# Altium integrated library WE-SHC (rev24a).IntLib: 139 symbols (part 2 of 3)
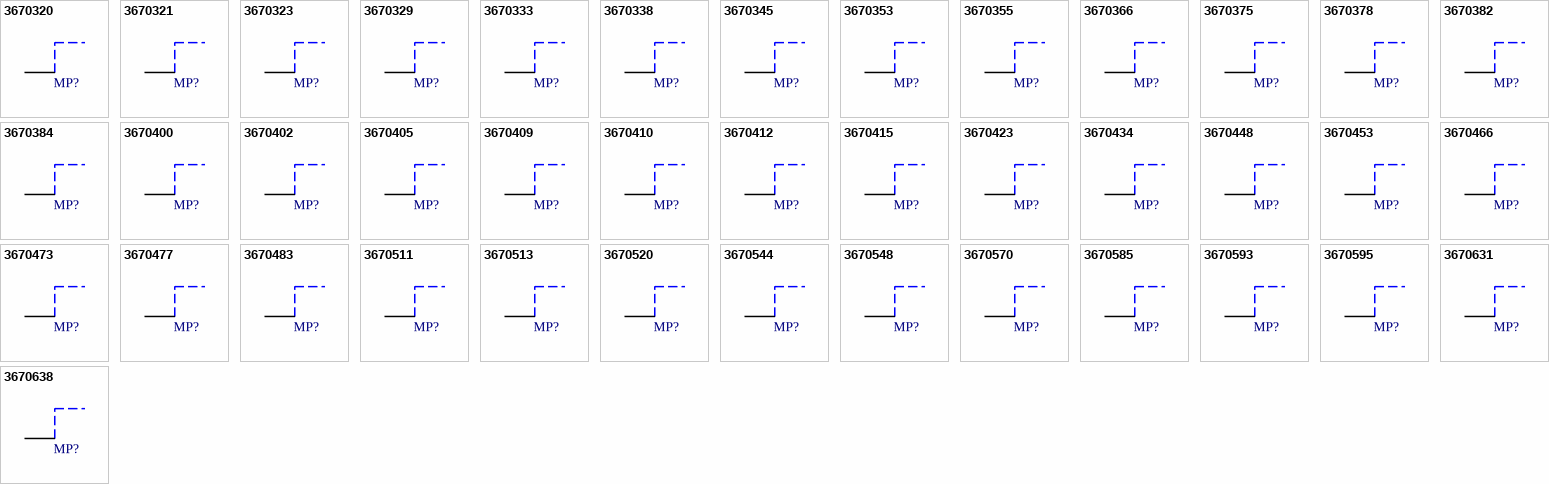
[diagram p4: symbols 3670320 to 3670638]

## 3670511
designator MP?  (value not drawn)
WE-SHC Shielding Cabinet, SMT Frame Seamless, Tin Plated, Tray, 51.1x25.7x6.5mm; Manufacturer: Wurth Elektronik; Base Material: Steel; ComponentLink1Description: Website Link; ComponentLink1URL: https://www.we-online.com/redexpert/article/3670511?ad; ComponentLink2Description: Datasheet Link; ComponentLink2URL: https://www.we-online.com/redexpert/spec/3670511?ad; Manufacturer Part Number: 3670511; Category: EMC Shielding; Match Code: WE-SHC; Mount: Surface Mount; Operating Temperature Max: 125°C; Operating Temperature Min: -40°C; Packaging: Tray; Length: 51.1mm; Width: 25.7mm; Height: 6.5mm; Plating: Tin Plated; Type: SMT Frame Seamless
footprint 3670511
pins: 1

## 3670513
designator MP?  (value not drawn)
WE-SHC Shielding Cabinet, SMT Frame Seamless, Tin Plated, Tray, 51.3x26.5x9.5mm; Manufacturer: Wurth Elektronik; Base Material: Steel; ComponentLink1Description: Website Link; ComponentLink1URL: https://www.we-online.com/redexpert/article/3670513?ad; ComponentLink2Description: Datasheet Link; ComponentLink2URL: https://www.we-online.com/redexpert/spec/3670513?ad; Manufacturer Part Number: 3670513; Category: EMC Shielding; Match Code: WE-SHC; Mount: Surface Mount; Operating Temperature Max: 125°C; Operating Temperature Min: -40°C; Packaging: Tray; Length: 51.3mm; Width: 26.5mm; Height: 9.5mm; Plating: Tin Plated; Type: SMT Frame Seamless
footprint 3670513
pins: 1

## 3670520
designator MP?  (value not drawn)
WE-SHC Shielding Cabinet, SMT Frame Seamless, Tin Plated, Tray, 52x26.7x6mm; Manufacturer: Wurth Elektronik; Base Material: Steel; ComponentLink1Description: Website Link; ComponentLink1URL: https://www.we-online.com/redexpert/article/3670520?ad; ComponentLink2Description: Datasheet Link; ComponentLink2URL: https://www.we-online.com/redexpert/spec/3670520?ad; Manufacturer Part Number: 3670520; Category: EMC Shielding; Match Code: WE-SHC; Mount: Surface Mount; Operating Temperature Max: 125°C; Operating Temperature Min: -40°C; Packaging: Tray; Length: 52mm; Width: 26.7mm; Height: 6mm; Plating: Tin Plated; Type: SMT Frame Seamless
footprint 3670520
pins: 1

## 3670544
designator MP?  (value not drawn)
WE-SHC Shielding Cabinet, SMT Frame Seamless, Tin Plated, Tray, 54.4x23.9x7.5mm; Manufacturer: Wurth Elektronik; Base Material: Steel; ComponentLink1Description: Website Link; ComponentLink1URL: https://www.we-online.com/redexpert/article/3670544?ad; ComponentLink2Description: Datasheet Link; ComponentLink2URL: https://www.we-online.com/redexpert/spec/3670544?ad; Manufacturer Part Number: 3670544; Category: EMC Shielding; Match Code: WE-SHC; Mount: Surface Mount; Operating Temperature Max: 125°C; Operating Temperature Min: -40°C; Packaging: Tray; Length: 54.4mm; Width: 23.9mm; Height: 7.5mm; Plating: Tin Plated; Type: SMT Frame Seamless
footprint 3670544
pins: 1

## 3670548
designator MP?  (value not drawn)
WE-SHC Shielding Cabinet, SMT Frame Seamless, Tin Plated, Tray, 54.8x40.8x11mm; Manufacturer: Wurth Elektronik; Base Material: Steel; ComponentLink1Description: Website Link; ComponentLink1URL: https://www.we-online.com/redexpert/article/3670548?ad; ComponentLink2Description: Datasheet Link; ComponentLink2URL: https://www.we-online.com/redexpert/spec/3670548?ad; Manufacturer Part Number: 3670548; Category: EMC Shielding; Match Code: WE-SHC; Mount: Surface Mount; Operating Temperature Max: 125°C; Operating Temperature Min: -40°C; Packaging: Tray; Length: 54.8mm; Width: 40.8mm; Height: 11mm; Plating: Tin Plated; Type: SMT Frame Seamless
footprint 3670548
pins: 1

## 3670570
designator MP?  (value not drawn)
WE-SHC Shielding Cabinet, SMT Frame Seamless, Tin Plated, Tray, 57x31x6mm; Manufacturer: Wurth Elektronik; Base Material: Steel; ComponentLink1Description: Website Link; ComponentLink1URL: https://www.we-online.com/redexpert/article/3670570?ad; ComponentLink2Description: Datasheet Link; ComponentLink2URL: https://www.we-online.com/redexpert/spec/3670570?ad; Manufacturer Part Number: 3670570; Category: EMC Shielding; Match Code: WE-SHC; Mount: Surface Mount; Operating Temperature Max: 125°C; Operating Temperature Min: -40°C; Packaging: Tray; Length: 57mm; Width: 31mm; Height: 6mm; Plating: Tin Plated; Type: SMT Frame Seamless
footprint 3670570
pins: 1

## 3670585
designator MP?  (value not drawn)
WE-SHC Shielding Cabinet, SMT Frame Seamless, Tin Plated, Tray, 58.5x49.7x4.7mm; Manufacturer: Wurth Elektronik; Base Material: Steel; ComponentLink1Description: Website Link; ComponentLink1URL: https://www.we-online.com/redexpert/article/3670585?ad; ComponentLink2Description: Datasheet Link; ComponentLink2URL: https://www.we-online.com/redexpert/spec/3670585?ad; Manufacturer Part Number: 3670585; Category: EMC Shielding; Match Code: WE-SHC; Mount: Surface Mount; Operating Temperature Max: 125°C; Operating Temperature Min: -40°C; Packaging: Tray; Length: 58.5mm; Width: 49.7mm; Height: 4.7mm; Plating: Tin Plated; Type: SMT Frame Seamless
footprint 3670585
pins: 1

## 3670593
designator MP?  (value not drawn)
WE-SHC Shielding Cabinet, SMT Frame Seamless, Tin Plated, Tray, 59.3x20.6x2.8mm; Manufacturer: Wurth Elektronik; Base Material: Steel; ComponentLink1Description: Website Link; ComponentLink1URL: https://www.we-online.com/redexpert/article/3670593?ad; ComponentLink2Description: Datasheet Link; ComponentLink2URL: https://www.we-online.com/redexpert/spec/3670593?ad; Manufacturer Part Number: 3670593; Category: EMC Shielding; Match Code: WE-SHC; Mount: Surface Mount; Operating Temperature Max: 125°C; Operating Temperature Min: -40°C; Packaging: Tray; Length: 59.3mm; Width: 20.6mm; Height: 2.8mm; Plating: Tin Plated; Type: SMT Frame Seamless
footprint 3670593
pins: 1

## 3670595
designator MP?  (value not drawn)
WE-SHC Shielding Cabinet, SMT Frame Seamless, Tin Plated, Tray, 59.5x50.4x3.2mm; Manufacturer: Wurth Elektronik; Base Material: Steel; ComponentLink1Description: Website Link; ComponentLink1URL: https://www.we-online.com/redexpert/article/3670595?ad; ComponentLink2Description: Datasheet Link; ComponentLink2URL: https://www.we-online.com/redexpert/spec/3670595?ad; Manufacturer Part Number: 3670595; Category: EMC Shielding; Match Code: WE-SHC; Mount: Surface Mount; Operating Temperature Max: 125°C; Operating Temperature Min: -40°C; Packaging: Tray; Length: 59.5mm; Width: 50.4mm; Height: 3.2mm; Plating: Tin Plated; Type: SMT Frame Seamless
footprint 3670595
pins: 1

## 3670631
designator MP?  (value not drawn)
WE-SHC Shielding Cabinet, SMT Frame Seamless, Tin Plated, Tray, 63.1x35.5x2.8mm; Manufacturer: Wurth Elektronik; Base Material: Steel; ComponentLink1Description: Website Link; ComponentLink1URL: https://www.we-online.com/redexpert/article/3670631?ad; ComponentLink2Description: Datasheet Link; ComponentLink2URL: https://www.we-online.com/redexpert/spec/3670631?ad; Manufacturer Part Number: 3670631; Category: EMC Shielding; Match Code: WE-SHC; Mount: Surface Mount; Operating Temperature Max: 125°C; Operating Temperature Min: -40°C; Packaging: Tray; Length: 63.1mm; Width: 35.5mm; Height: 2.8mm; Plating: Tin Plated; Type: SMT Frame Seamless
footprint 3670631
pins: 1

## 3670638
designator MP?  (value not drawn)
WE-SHC Shielding Cabinet, SMT Frame Seamless, Tin Plated, Tray, 63.8x36.3x11mm; Manufacturer: Wurth Elektronik; Base Material: Steel; ComponentLink1Description: Website Link; ComponentLink1URL: https://www.we-online.com/redexpert/article/3670638?ad; ComponentLink2Description: Datasheet Link; ComponentLink2URL: https://www.we-online.com/redexpert/spec/3670638?ad; Manufacturer Part Number: 3670638; Category: EMC Shielding; Match Code: WE-SHC; Mount: Surface Mount; Operating Temperature Max: 125°C; Operating Temperature Min: -40°C; Packaging: Tray; Length: 63.8mm; Width: 36.3mm; Height: 11mm; Plating: Tin Plated; Type: SMT Frame Seamless
footprint 3670638
pins: 1

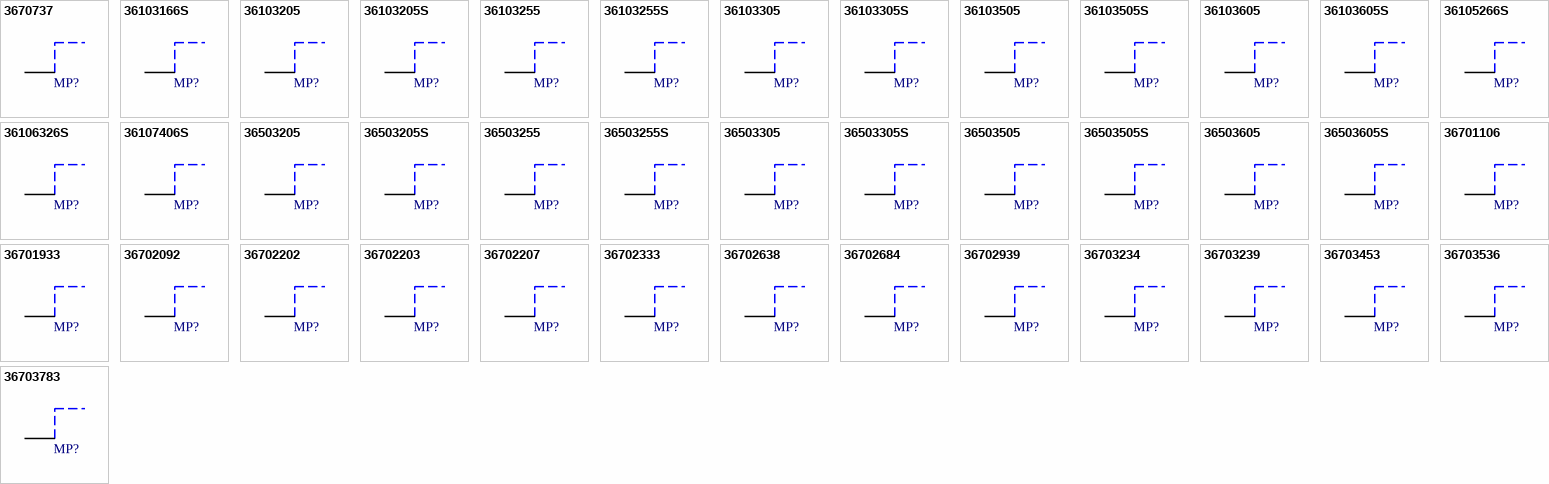
[diagram p2: symbols 3670737 to 36703783]

## 3670737
designator MP?  (value not drawn)
WE-SHC Shielding Cabinet, SMT Frame Seamless, Tin Plated, Tray, 73.7x28.1x2.9mm; Manufacturer: Wurth Elektronik; Base Material: Steel; ComponentLink1Description: Website Link; ComponentLink1URL: https://www.we-online.com/redexpert/article/3670737?ad; ComponentLink2Description: Datasheet Link; ComponentLink2URL: https://www.we-online.com/redexpert/spec/3670737?ad; Manufacturer Part Number: 3670737; Category: EMC Shielding; Match Code: WE-SHC; Mount: Surface Mount; Operating Temperature Max: 125°C; Operating Temperature Min: -40°C; Packaging: Tray; Length: 73.7mm; Width: 28.1mm; Height: 2.9mm; Plating: Tin Plated; Type: SMT Frame Seamless
footprint 3670737
pins: 1

## 36103166S
designator MP?  (value not drawn)
WE-SHC Shielding Cabinet, SMT Frame, Tin Plated, Tape and Reel, 16.1x16.1x3.6mm; Manufacturer: Wurth Elektronik; Base Material: Steel; ComponentLink1Description: Website Link; ComponentLink1URL: https://www.we-online.com/redexpert/article/36103166S?ad; ComponentLink2Description: Datasheet Link; ComponentLink2URL: https://www.we-online.com/redexpert/spec/36103166S?ad; Manufacturer Part Number: 36103166S; Category: EMC Shielding; Match Code: WE-SHC; Mount: Surface Mount; Operating Temperature Max: 125°C; Operating Temperature Min: -40°C; Packaging: Tape and Reel; Length: 16.1mm; Width: 16.1mm; Height: 3.6mm; Plating: Tin Plated; Type: SMT Frame
footprint 36103166S
pins: 1

## 36103205
designator MP?  (value not drawn)
WE-SHC Shielding Cabinet, SMT Frame, Tin Plated, Tape and Reel, 20x20x3mm; Manufacturer: Wurth Elektronik; Base Material: Steel; ComponentLink1Description: Website Link; ComponentLink1URL: https://www.we-online.com/redexpert/article/36103205?ad; ComponentLink2Description: Datasheet Link; ComponentLink2URL: https://www.we-online.com/redexpert/spec/36103205?ad; Manufacturer Part Number: 36103205; Category: EMC Shielding; Match Code: WE-SHC; Mount: Surface Mount; Operating Temperature Max: 125°C; Operating Temperature Min: -40°C; Packaging: Tape and Reel; Length: 20mm; Width: 20mm; Height: 3mm; Plating: Tin Plated; Type: SMT Frame
footprint 36103205
pins: 1

## 36103205S
designator MP?  (value not drawn)
WE-SHC Shielding Cabinet, SMT Frame, Tin Plated, Tray, 20x20x3mm; Manufacturer: Wurth Elektronik; Base Material: Steel; ComponentLink1Description: Website Link; ComponentLink1URL: https://www.we-online.com/redexpert/article/36103205S?ad; ComponentLink2Description: Datasheet Link; ComponentLink2URL: https://www.we-online.com/redexpert/spec/36103205S?ad; Manufacturer Part Number: 36103205S; Category: EMC Shielding; Match Code: WE-SHC; Mount: Surface Mount; Operating Temperature Max: 125°C; Operating Temperature Min: -40°C; Packaging: Tray; Length: 20mm; Width: 20mm; Height: 3mm; Plating: Tin Plated; Type: SMT Frame
footprint 36103205S
pins: 1

## 36103255
designator MP?  (value not drawn)
WE-SHC Shielding Cabinet, SMT Frame, Tin Plated, Tray, 25x25x3mm; Manufacturer: Wurth Elektronik; Base Material: Steel; ComponentLink1Description: Website Link; ComponentLink1URL: https://www.we-online.com/redexpert/article/36103255?ad; ComponentLink2Description: Datasheet Link; ComponentLink2URL: https://www.we-online.com/redexpert/spec/36103255?ad; Manufacturer Part Number: 36103255; Category: EMC Shielding; Match Code: WE-SHC; Mount: Surface Mount; Operating Temperature Max: 125°C; Operating Temperature Min: -40°C; Packaging: Tray; Length: 25mm; Width: 25mm; Height: 3mm; Plating: Tin Plated; Type: SMT Frame
footprint 36103255
pins: 1

## 36103255S
designator MP?  (value not drawn)
WE-SHC Shielding Cabinet, SMT Frame, Tin Plated, Tray, 25x25x3mm; Manufacturer: Wurth Elektronik; Base Material: Steel; ComponentLink1Description: Website Link; ComponentLink1URL: https://www.we-online.com/redexpert/article/36103255S?ad; ComponentLink2Description: Datasheet Link; ComponentLink2URL: https://www.we-online.com/redexpert/spec/36103255S?ad; Manufacturer Part Number: 36103255S; Category: EMC Shielding; Match Code: WE-SHC; Mount: Surface Mount; Operating Temperature Max: 125°C; Operating Temperature Min: -40°C; Packaging: Tray; Length: 25mm; Width: 25mm; Height: 3mm; Plating: Tin Plated; Type: SMT Frame
footprint 36103255S
pins: 1

## 36103305
designator MP?  (value not drawn)
WE-SHC Shielding Cabinet, SMT Frame, Tin Plated, Tape and Reel, 30x30x3mm; Manufacturer: Wurth Elektronik; Base Material: Steel; ComponentLink1Description: Website Link; ComponentLink1URL: https://www.we-online.com/redexpert/article/36103305?ad; ComponentLink2Description: Datasheet Link; ComponentLink2URL: https://www.we-online.com/redexpert/spec/36103305?ad; Manufacturer Part Number: 36103305; Category: EMC Shielding; Match Code: WE-SHC; Mount: Surface Mount; Operating Temperature Max: 125°C; Operating Temperature Min: -40°C; Packaging: Tape and Reel; Length: 30mm; Width: 30mm; Height: 3mm; Plating: Tin Plated; Type: SMT Frame
footprint 36103305
pins: 1

## 36103305S
designator MP?  (value not drawn)
WE-SHC Shielding Cabinet, SMT Frame, Tin Plated, Tray, 30x30x3mm; Manufacturer: Wurth Elektronik; Base Material: Steel; ComponentLink1Description: Website Link; ComponentLink1URL: https://www.we-online.com/redexpert/article/36103305S?ad; ComponentLink2Description: Datasheet Link; ComponentLink2URL: https://www.we-online.com/redexpert/spec/36103305S?ad; Manufacturer Part Number: 36103305S; Category: EMC Shielding; Match Code: WE-SHC; Mount: Surface Mount; Operating Temperature Max: 125°C; Operating Temperature Min: -40°C; Packaging: Tray; Length: 30mm; Width: 30mm; Height: 3mm; Plating: Tin Plated; Type: SMT Frame
footprint 36103305S
pins: 1

## 36103505
designator MP?  (value not drawn)
WE-SHC Shielding Cabinet, SMT Frame, Tin Plated, Tape and Reel, 50x50x3mm; Manufacturer: Wurth Elektronik; Base Material: Steel; ComponentLink1Description: Website Link; ComponentLink1URL: https://www.we-online.com/redexpert/article/36103505?ad; ComponentLink2Description: Datasheet Link; ComponentLink2URL: https://www.we-online.com/redexpert/spec/36103505?ad; Manufacturer Part Number: 36103505; Category: EMC Shielding; Match Code: WE-SHC; Mount: Surface Mount; Operating Temperature Max: 125°C; Operating Temperature Min: -40°C; Packaging: Tape and Reel; Length: 50mm; Width: 50mm; Height: 3mm; Plating: Tin Plated; Type: SMT Frame
footprint 36103505
pins: 1

## 36103505S
designator MP?  (value not drawn)
WE-SHC Shielding Cabinet, SMT Frame, Tin Plated, Tray, 50x50x3mm; Manufacturer: Wurth Elektronik; Base Material: Steel; ComponentLink1Description: Website Link; ComponentLink1URL: https://www.we-online.com/redexpert/article/36103505S?ad; ComponentLink2Description: Datasheet Link; ComponentLink2URL: https://www.we-online.com/redexpert/spec/36103505S?ad; Manufacturer Part Number: 36103505S; Category: EMC Shielding; Match Code: WE-SHC; Mount: Surface Mount; Operating Temperature Max: 125°C; Operating Temperature Min: -40°C; Packaging: Tray; Length: 50mm; Width: 50mm; Height: 3mm; Plating: Tin Plated; Type: SMT Frame
footprint 36103505S
pins: 1

## 36103605
designator MP?  (value not drawn)
WE-SHC Shielding Cabinet, SMT Frame, Tin Plated, Tray, 60x60x3mm; Manufacturer: Wurth Elektronik; Base Material: Steel; ComponentLink1Description: Website Link; ComponentLink1URL: https://www.we-online.com/redexpert/article/36103605?ad; ComponentLink2Description: Datasheet Link; ComponentLink2URL: https://www.we-online.com/redexpert/spec/36103605?ad; Manufacturer Part Number: 36103605; Category: EMC Shielding; Match Code: WE-SHC; Mount: Surface Mount; Operating Temperature Max: 125°C; Operating Temperature Min: -40°C; Packaging: Tray; Length: 60mm; Width: 60mm; Height: 3mm; Plating: Tin Plated; Type: SMT Frame
footprint 36103605
pins: 1

## 36103605S
designator MP?  (value not drawn)
WE-SHC Shielding Cabinet, SMT Frame, Tin Plated, Tray, 60x60x3mm; Manufacturer: Wurth Elektronik; Base Material: Steel; ComponentLink1Description: Website Link; ComponentLink1URL: https://www.we-online.com/redexpert/article/36103605S?ad; ComponentLink2Description: Datasheet Link; ComponentLink2URL: https://www.we-online.com/redexpert/spec/36103605S?ad; Manufacturer Part Number: 36103605S; Category: EMC Shielding; Match Code: WE-SHC; Mount: Surface Mount; Operating Temperature Max: 125°C; Operating Temperature Min: -40°C; Packaging: Tray; Length: 60mm; Width: 60mm; Height: 3mm; Plating: Tin Plated; Type: SMT Frame
footprint 36103605S
pins: 1

## 36105266S
designator MP?  (value not drawn)
WE-SHC Shielding Cabinet, SMT Frame, Tin Plated, Tape and Reel, 25.81x25.81x4.88mm; Manufacturer: Wurth Elektronik; Base Material: Steel; ComponentLink1Description: Website Link; ComponentLink1URL: https://www.we-online.com/redexpert/article/36105266S?ad; ComponentLink2Description: Datasheet Link; ComponentLink2URL: https://www.we-online.com/redexpert/spec/36105266S?ad; Manufacturer Part Number: 36105266S; Category: EMC Shielding; Match Code: WE-SHC; Mount: Surface Mount; Operating Temperature Max: 125°C; Operating Temperature Min: -40°C; Packaging: Tape and Reel; Length: 25.81mm; Width: 25.81mm; Height: 4.88mm; Plating: Tin Plated; Type: SMT Frame
footprint 36105266S
pins: 1

## 36106326S
designator MP?  (value not drawn)
WE-SHC Shielding Cabinet, SMT Frame, Tin Plated, Tape and Reel, 31.6x31.6x5.8mm; Manufacturer: Wurth Elektronik; Base Material: Steel; ComponentLink1Description: Website Link; ComponentLink1URL: https://www.we-online.com/redexpert/article/36106326S?ad; ComponentLink2Description: Datasheet Link; ComponentLink2URL: https://www.we-online.com/redexpert/spec/36106326S?ad; Manufacturer Part Number: 36106326S; Category: EMC Shielding; Match Code: WE-SHC; Mount: Surface Mount; Operating Temperature Max: 125°C; Operating Temperature Min: -40°C; Packaging: Tape and Reel; Length: 31.6mm; Width: 31.6mm; Height: 5.8mm; Plating: Tin Plated; Type: SMT Frame
footprint 36106326S
pins: 1

## 36107406S
designator MP?  (value not drawn)
WE-SHC Shielding Cabinet, SMT Frame, Tin Plated, Tray, 43.97x43.97x9.55mm; Manufacturer: Wurth Elektronik; Base Material: Steel; ComponentLink1Description: Website Link; ComponentLink1URL: https://www.we-online.com/redexpert/article/36107406S?ad; ComponentLink2Description: Datasheet Link; ComponentLink2URL: https://www.we-online.com/redexpert/spec/36107406S?ad; Manufacturer Part Number: 36107406S; Category: EMC Shielding; Match Code: WE-SHC; Mount: Surface Mount; Operating Temperature Max: 125°C; Operating Temperature Min: -40°C; Packaging: Tray; Length: 43.97mm; Width: 43.97mm; Height: 9.55mm; Plating: Tin Plated; Type: SMT Frame
footprint 36107406S
pins: 1

## 36503205
designator MP?  (value not drawn)
WE-SHC Shielding Cabinet, THT Frame, Tin Plated, Tray, 20x20x3mm; Manufacturer: Wurth Elektronik; Base Material: Steel; ComponentLink1Description: Website Link; ComponentLink1URL: https://www.we-online.com/redexpert/article/36503205?ad; ComponentLink2Description: Datasheet Link; ComponentLink2URL: https://www.we-online.com/redexpert/spec/36503205?ad; Manufacturer Part Number: 36503205; Category: EMC Shielding; Match Code: WE-SHC; Mount: Through Hole; Operating Temperature Max: 125°C; Operating Temperature Min: -40°C; Packaging: Tray; Length: 20mm; Width: 20mm; Height: 3mm; Plating: Tin Plated; Type: THT Frame
footprint 36503205
pins: 1

## 36503205S
designator MP?  (value not drawn)
WE-SHC Shielding Cabinet, THT Frame, Tin Plated, Tray, 20x20x3mm; Manufacturer: Wurth Elektronik; Base Material: Steel; ComponentLink1Description: Website Link; ComponentLink1URL: https://www.we-online.com/redexpert/article/36503205S?ad; ComponentLink2Description: Datasheet Link; ComponentLink2URL: https://www.we-online.com/redexpert/spec/36503205S?ad; Manufacturer Part Number: 36503205S; Category: EMC Shielding; Match Code: WE-SHC; Mount: Through Hole; Operating Temperature Max: 125°C; Operating Temperature Min: -40°C; Packaging: Tray; Length: 20mm; Width: 20mm; Height: 3mm; Plating: Tin Plated; Type: THT Frame
footprint 36503205S
pins: 1

## 36503255
designator MP?  (value not drawn)
WE-SHC Shielding Cabinet, THT Frame, Tin Plated, Tray, 25x25x3mm; Manufacturer: Wurth Elektronik; Base Material: Steel; ComponentLink1Description: Website Link; ComponentLink1URL: https://www.we-online.com/redexpert/article/36503255?ad; ComponentLink2Description: Datasheet Link; ComponentLink2URL: https://www.we-online.com/redexpert/spec/36503255?ad; Manufacturer Part Number: 36503255; Category: EMC Shielding; Match Code: WE-SHC; Mount: Through Hole; Operating Temperature Max: 125°C; Operating Temperature Min: -40°C; Packaging: Tray; Length: 25mm; Width: 25mm; Height: 3mm; Plating: Tin Plated; Type: THT Frame
footprint 36503255
pins: 1

## 36503255S
designator MP?  (value not drawn)
WE-SHC Shielding Cabinet, THT Frame, Tin Plated, Tray, 25x25x3mm; Manufacturer: Wurth Elektronik; Base Material: Steel; ComponentLink1Description: Website Link; ComponentLink1URL: https://www.we-online.com/redexpert/article/36503255S?ad; ComponentLink2Description: Datasheet Link; ComponentLink2URL: https://www.we-online.com/redexpert/spec/36503255S?ad; Manufacturer Part Number: 36503255S; Category: EMC Shielding; Match Code: WE-SHC; Mount: Through Hole; Operating Temperature Max: 125°C; Operating Temperature Min: -40°C; Packaging: Tray; Length: 25mm; Width: 25mm; Height: 3mm; Plating: Tin Plated; Type: THT Frame
footprint 36503255S
pins: 1

## 36503305
designator MP?  (value not drawn)
WE-SHC Shielding Cabinet, THT Frame, Tin Plated, Tray, 30x30x3mm; Manufacturer: Wurth Elektronik; Base Material: Steel; ComponentLink1Description: Website Link; ComponentLink1URL: https://www.we-online.com/redexpert/article/36503305?ad; ComponentLink2Description: Datasheet Link; ComponentLink2URL: https://www.we-online.com/redexpert/spec/36503305?ad; Manufacturer Part Number: 36503305; Category: EMC Shielding; Match Code: WE-SHC; Mount: Through Hole; Operating Temperature Max: 125°C; Operating Temperature Min: -40°C; Packaging: Tray; Length: 30mm; Width: 30mm; Height: 3mm; Plating: Tin Plated; Type: THT Frame
footprint 36503305
pins: 1

## 36503305S
designator MP?  (value not drawn)
WE-SHC Shielding Cabinet, THT Frame, Tin Plated, Tray, 30.4x30.4x3mm; Manufacturer: Wurth Elektronik; Base Material: Steel; ComponentLink1Description: Website Link; ComponentLink1URL: https://www.we-online.com/redexpert/article/36503305S?ad; ComponentLink2Description: Datasheet Link; ComponentLink2URL: https://www.we-online.com/redexpert/spec/36503305S?ad; Manufacturer Part Number: 36503305S; Category: EMC Shielding; Match Code: WE-SHC; Mount: Through Hole; Operating Temperature Max: 125°C; Operating Temperature Min: -40°C; Packaging: Tray; Length: 30.4mm; Width: 30.4mm; Height: 3mm; Plating: Tin Plated; Type: THT Frame
footprint 36503305S
pins: 1

## 36503505
designator MP?  (value not drawn)
WE-SHC Shielding Cabinet, THT Frame, Tin Plated, Tray, 50x50x3mm; Manufacturer: Wurth Elektronik; Base Material: Steel; ComponentLink1Description: Website Link; ComponentLink1URL: https://www.we-online.com/redexpert/article/36503505?ad; ComponentLink2Description: Datasheet Link; ComponentLink2URL: https://www.we-online.com/redexpert/spec/36503505?ad; Manufacturer Part Number: 36503505; Category: EMC Shielding; Match Code: WE-SHC; Mount: Through Hole; Operating Temperature Max: 125°C; Operating Temperature Min: -40°C; Packaging: Tray; Length: 50mm; Width: 50mm; Height: 3mm; Plating: Tin Plated; Type: THT Frame
footprint 36503505
pins: 1

## 36503505S
designator MP?  (value not drawn)
WE-SHC Shielding Cabinet, THT Frame, Tin Plated, Tray, 50x50x3mm; Manufacturer: Wurth Elektronik; Base Material: Steel; ComponentLink1Description: Website Link; ComponentLink1URL: https://www.we-online.com/redexpert/article/36503505S?ad; ComponentLink2Description: Datasheet Link; ComponentLink2URL: https://www.we-online.com/redexpert/spec/36503505S?ad; Manufacturer Part Number: 36503505S; Category: EMC Shielding; Match Code: WE-SHC; Mount: Through Hole; Operating Temperature Max: 125°C; Operating Temperature Min: -40°C; Packaging: Tray; Length: 50mm; Width: 50mm; Height: 3mm; Plating: Tin Plated; Type: THT Frame
footprint 36503505S
pins: 1

## 36503605
designator MP?  (value not drawn)
WE-SHC Shielding Cabinet, THT Frame, Tin Plated, Tray, 60x60x3mm; Manufacturer: Wurth Elektronik; Base Material: Steel; ComponentLink1Description: Website Link; ComponentLink1URL: https://www.we-online.com/redexpert/article/36503605?ad; ComponentLink2Description: Datasheet Link; ComponentLink2URL: https://www.we-online.com/redexpert/spec/36503605?ad; Manufacturer Part Number: 36503605; Category: EMC Shielding; Match Code: WE-SHC; Mount: Through Hole; Operating Temperature Max: 125°C; Operating Temperature Min: -40°C; Packaging: Tray; Length: 60mm; Width: 60mm; Height: 3mm; Plating: Tin Plated; Type: THT Frame
footprint 36503605
pins: 1

## 36503605S
designator MP?  (value not drawn)
WE-SHC Shielding Cabinet, THT Frame, Tin Plated, Tray, 60x60x3mm; Manufacturer: Wurth Elektronik; Base Material: Steel; ComponentLink1Description: Website Link; ComponentLink1URL: https://www.we-online.com/redexpert/article/36503605S?ad; ComponentLink2Description: Datasheet Link; ComponentLink2URL: https://www.we-online.com/redexpert/spec/36503605S?ad; Manufacturer Part Number: 36503605S; Category: EMC Shielding; Match Code: WE-SHC; Mount: Through Hole; Operating Temperature Max: 125°C; Operating Temperature Min: -40°C; Packaging: Tray; Length: 60mm; Width: 60mm; Height: 3mm; Plating: Tin Plated; Type: THT Frame
footprint 36503605S
pins: 1

## 36701106
designator MP?  (value not drawn)
WE-SHC Shielding Cabinet, SMT Frame Seamless, Tin Plated, Tray, 11x11x6mm; Manufacturer: Wurth Elektronik; Base Material: Steel; ComponentLink1Description: Website Link; ComponentLink1URL: https://www.we-online.com/redexpert/article/36701106?ad; ComponentLink2Description: Datasheet Link; ComponentLink2URL: https://www.we-online.com/redexpert/spec/36701106?ad; Manufacturer Part Number: 36701106; Category: EMC Shielding; Match Code: WE-SHC; Mount: Surface Mount; Operating Temperature Max: 125°C; Operating Temperature Min: -40°C; Packaging: Tray; Length: 11mm; Width: 11mm; Height: 6mm; Plating: Tin Plated; Type: SMT Frame Seamless
footprint 36701106
pins: 1

## 36701933
designator MP?  (value not drawn)
WE-SHC Shielding Cabinet, SMT Frame Seamless, Tin Plated, Tray, 19.3x18.3x3.5mm; Manufacturer: Wurth Elektronik; Base Material: Steel; ComponentLink1Description: Website Link; ComponentLink1URL: https://www.we-online.com/redexpert/article/36701933?ad; ComponentLink2Description: Datasheet Link; ComponentLink2URL: https://www.we-online.com/redexpert/spec/36701933?ad; Manufacturer Part Number: 36701933; Category: EMC Shielding; Match Code: WE-SHC; Mount: Surface Mount; Operating Temperature Max: 125°C; Operating Temperature Min: -40°C; Packaging: Tray; Length: 19.3mm; Width: 18.3mm; Height: 3.5mm; Plating: Tin Plated; Type: SMT Frame Seamless
footprint 36701933
pins: 1

## 36702092
designator MP?  (value not drawn)
WE-SHC Shielding Cabinet, SMT Frame Seamless, Tin Plated, Tray, 20.9x15.3x2mm; Manufacturer: Wurth Elektronik; Base Material: Steel; ComponentLink1Description: Website Link; ComponentLink1URL: https://www.we-online.com/redexpert/article/36702092?ad; ComponentLink2Description: Datasheet Link; ComponentLink2URL: https://www.we-online.com/redexpert/spec/36702092?ad; Manufacturer Part Number: 36702092; Category: EMC Shielding; Match Code: WE-SHC; Mount: Surface Mount; Operating Temperature Max: 125°C; Operating Temperature Min: -40°C; Packaging: Tray; Length: 20.9mm; Width: 15.3mm; Height: 2mm; Plating: Tin Plated; Type: SMT Frame Seamless
footprint 36702092
pins: 1

## 36702202
designator MP?  (value not drawn)
WE-SHC Shielding Cabinet, SMT Frame Seamless, Tin Plated, Tray, 22x11.3x2.8mm; Manufacturer: Wurth Elektronik; Base Material: Steel; ComponentLink1Description: Website Link; ComponentLink1URL: https://www.we-online.com/redexpert/article/36702202?ad; ComponentLink2Description: Datasheet Link; ComponentLink2URL: https://www.we-online.com/redexpert/spec/36702202?ad; Manufacturer Part Number: 36702202; Category: EMC Shielding; Match Code: WE-SHC; Mount: Surface Mount; Operating Temperature Max: 125°C; Operating Temperature Min: -40°C; Packaging: Tray; Length: 22mm; Width: 11.3mm; Height: 2.8mm; Plating: Tin Plated; Type: SMT Frame Seamless
footprint 36702202
pins: 1

## 36702203
designator MP?  (value not drawn)
WE-SHC Shielding Cabinet, SMT Frame Seamless, Tin Plated, Tray, 22x17.7x3mm; Manufacturer: Wurth Elektronik; Base Material: Steel; ComponentLink1Description: Website Link; ComponentLink1URL: https://www.we-online.com/redexpert/article/36702203?ad; ComponentLink2Description: Datasheet Link; ComponentLink2URL: https://www.we-online.com/redexpert/spec/36702203?ad; Manufacturer Part Number: 36702203; Category: EMC Shielding; Match Code: WE-SHC; Mount: Surface Mount; Operating Temperature Max: 125°C; Operating Temperature Min: -40°C; Packaging: Tray; Length: 22mm; Width: 17.7mm; Height: 3mm; Plating: Tin Plated; Type: SMT Frame Seamless
footprint 36702203
pins: 1

## 36702207
designator MP?  (value not drawn)
WE-SHC Shielding Cabinet, SMT Frame Seamless, Tin Plated, Tray, 22x11.3x7mm; Manufacturer: Wurth Elektronik; Base Material: Steel; ComponentLink1Description: Website Link; ComponentLink1URL: https://www.we-online.com/redexpert/article/36702207?ad; ComponentLink2Description: Datasheet Link; ComponentLink2URL: https://www.we-online.com/redexpert/spec/36702207?ad; Manufacturer Part Number: 36702207; Category: EMC Shielding; Match Code: WE-SHC; Mount: Surface Mount; Operating Temperature Max: 125°C; Operating Temperature Min: -40°C; Packaging: Tray; Length: 22mm; Width: 11.3mm; Height: 7mm; Plating: Tin Plated; Type: SMT Frame Seamless
footprint 36702207
pins: 1

## 36702333
designator MP?  (value not drawn)
WE-SHC Shielding Cabinet, SMT Frame Seamless, Tin Plated, Tray, 23.3x14.5x3mm; Manufacturer: Wurth Elektronik; Base Material: Steel; ComponentLink1Description: Website Link; ComponentLink1URL: https://www.we-online.com/redexpert/article/36702333?ad; ComponentLink2Description: Datasheet Link; ComponentLink2URL: https://www.we-online.com/redexpert/spec/36702333?ad; Manufacturer Part Number: 36702333; Category: EMC Shielding; Match Code: WE-SHC; Mount: Surface Mount; Operating Temperature Max: 125°C; Operating Temperature Min: -40°C; Packaging: Tray; Length: 23.3mm; Width: 14.5mm; Height: 3mm; Plating: Tin Plated; Type: SMT Frame Seamless
footprint 36702333
pins: 1

## 36702638
designator MP?  (value not drawn)
WE-SHC Shielding Cabinet, SMT Frame Seamless, Tin Plated, Tray, 26.3x19.8x8.1mm; Manufacturer: Wurth Elektronik; Base Material: Steel; ComponentLink1Description: Website Link; ComponentLink1URL: https://www.we-online.com/redexpert/article/36702638?ad; ComponentLink2Description: Datasheet Link; ComponentLink2URL: https://www.we-online.com/redexpert/spec/36702638?ad; Manufacturer Part Number: 36702638; Category: EMC Shielding; Match Code: WE-SHC; Mount: Surface Mount; Operating Temperature Max: 125°C; Operating Temperature Min: -40°C; Packaging: Tray; Length: 26.3mm; Width: 19.8mm; Height: 8.1mm; Plating: Tin Plated; Type: SMT Frame Seamless
footprint 36702638
pins: 1

## 36702684
designator MP?  (value not drawn)
WE-SHC Shielding Cabinet, SMT Frame Seamless, Tin Plated, Tray, 26.8x15.6x4mm; Manufacturer: Wurth Elektronik; Base Material: Steel; ComponentLink1Description: Website Link; ComponentLink1URL: https://www.we-online.com/redexpert/article/36702684?ad; ComponentLink2Description: Datasheet Link; ComponentLink2URL: https://www.we-online.com/redexpert/spec/36702684?ad; Manufacturer Part Number: 36702684; Category: EMC Shielding; Match Code: WE-SHC; Mount: Surface Mount; Operating Temperature Max: 125°C; Operating Temperature Min: -40°C; Packaging: Tray; Length: 26.8mm; Width: 15.6mm; Height: 4mm; Plating: Tin Plated; Type: SMT Frame Seamless
footprint 36702684
pins: 1

## 36702939
designator MP?  (value not drawn)
WE-SHC Shielding Cabinet, SMT Frame Seamless, Tin Plated, Tray, 29.3x16.3x9.7mm; Manufacturer: Wurth Elektronik; Base Material: Steel; ComponentLink1Description: Website Link; ComponentLink1URL: https://www.we-online.com/redexpert/article/36702939?ad; ComponentLink2Description: Datasheet Link; ComponentLink2URL: https://www.we-online.com/redexpert/spec/36702939?ad; Manufacturer Part Number: 36702939; Category: EMC Shielding; Match Code: WE-SHC; Mount: Surface Mount; Operating Temperature Max: 125°C; Operating Temperature Min: -40°C; Packaging: Tray; Length: 29.3mm; Width: 16.3mm; Height: 9.7mm; Plating: Tin Plated; Type: SMT Frame Seamless
footprint 36702939
pins: 1

## 36703234
designator MP?  (value not drawn)
WE-SHC Shielding Cabinet, SMT Frame Seamless, Tin Plated, Tray, 32.3x23.8x4.7mm; Manufacturer: Wurth Elektronik; Base Material: Steel; ComponentLink1Description: Website Link; ComponentLink1URL: https://www.we-online.com/redexpert/article/36703234?ad; ComponentLink2Description: Datasheet Link; ComponentLink2URL: https://www.we-online.com/redexpert/spec/36703234?ad; Manufacturer Part Number: 36703234; Category: EMC Shielding; Match Code: WE-SHC; Mount: Surface Mount; Operating Temperature Max: 125°C; Operating Temperature Min: -40°C; Packaging: Tray; Length: 32.3mm; Width: 23.8mm; Height: 4.7mm; Plating: Tin Plated; Type: SMT Frame Seamless
footprint 36703234
pins: 1

## 36703239
designator MP?  (value not drawn)
WE-SHC Shielding Cabinet, SMT Frame Seamless, Tin Plated, Tray, 32.3x23.8x9mm; Manufacturer: Wurth Elektronik; Base Material: Steel; ComponentLink1Description: Website Link; ComponentLink1URL: https://www.we-online.com/redexpert/article/36703239?ad; ComponentLink2Description: Datasheet Link; ComponentLink2URL: https://www.we-online.com/redexpert/spec/36703239?ad; Manufacturer Part Number: 36703239; Category: EMC Shielding; Match Code: WE-SHC; Mount: Surface Mount; Operating Temperature Max: 125°C; Operating Temperature Min: -40°C; Packaging: Tray; Length: 32.3mm; Width: 23.8mm; Height: 9mm; Plating: Tin Plated; Type: SMT Frame Seamless
footprint 36703239
pins: 1

## 36703453
designator MP?  (value not drawn)
WE-SHC Shielding Cabinet, SMT Frame Seamless, Tin Plated, Tray, 34.5x21.5x3.2mm; Manufacturer: Wurth Elektronik; Base Material: Steel; ComponentLink1Description: Website Link; ComponentLink1URL: https://www.we-online.com/redexpert/article/36703453?ad; ComponentLink2Description: Datasheet Link; ComponentLink2URL: https://www.we-online.com/redexpert/spec/36703453?ad; Manufacturer Part Number: 36703453; Category: EMC Shielding; Match Code: WE-SHC; Mount: Surface Mount; Operating Temperature Max: 125°C; Operating Temperature Min: -40°C; Packaging: Tray; Length: 34.5mm; Width: 21.5mm; Height: 3.2mm; Plating: Tin Plated; Type: SMT Frame Seamless
footprint 36703453
pins: 1

## 36703536
designator MP?  (value not drawn)
WE-SHC Shielding Cabinet, SMT Frame Seamless, Tin Plated, Tray, 35.3x22.3x6.4mm; Manufacturer: Wurth Elektronik; Base Material: Steel; ComponentLink1Description: Website Link; ComponentLink1URL: https://www.we-online.com/redexpert/article/36703536?ad; ComponentLink2Description: Datasheet Link; ComponentLink2URL: https://www.we-online.com/redexpert/spec/36703536?ad; Manufacturer Part Number: 36703536; Category: EMC Shielding; Match Code: WE-SHC; Mount: Surface Mount; Operating Temperature Max: 125°C; Operating Temperature Min: -40°C; Packaging: Tray; Length: 35.3mm; Width: 22.3mm; Height: 6.4mm; Plating: Tin Plated; Type: SMT Frame Seamless
footprint 36703536
pins: 1

## 36703783
designator MP?  (value not drawn)
WE-SHC Shielding Cabinet, SMT Frame Seamless, Tin Plated, Tray, 37.8x15.1x3.7mm; Manufacturer: Wurth Elektronik; Base Material: Steel; ComponentLink1Description: Website Link; ComponentLink1URL: https://www.we-online.com/redexpert/article/36703783?ad; ComponentLink2Description: Datasheet Link; ComponentLink2URL: https://www.we-online.com/redexpert/spec/36703783?ad; Manufacturer Part Number: 36703783; Category: EMC Shielding; Match Code: WE-SHC; Mount: Surface Mount; Operating Temperature Max: 125°C; Operating Temperature Min: -40°C; Packaging: Tray; Length: 37.8mm; Width: 15.1mm; Height: 3.7mm; Plating: Tin Plated; Type: SMT Frame Seamless
footprint 36703783
pins: 1

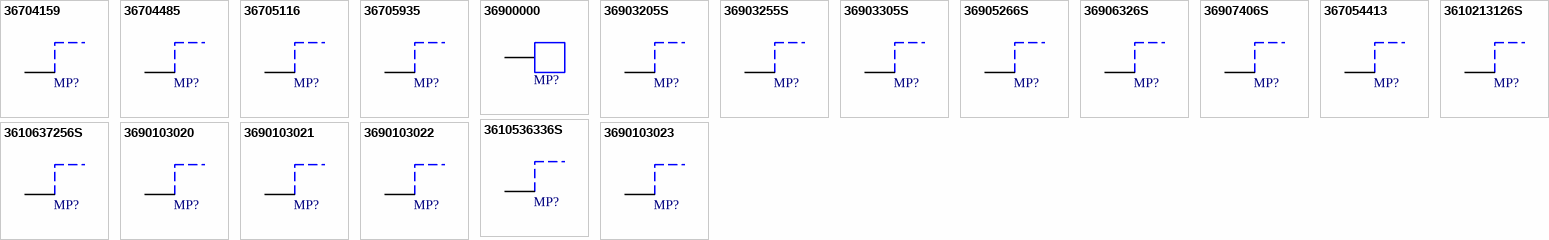
[diagram p3: symbols 36704159 to 3690103023]

## 36704159
designator MP?  (value not drawn)
WE-SHC Shielding Cabinet, SMT Frame Seamless, Tin Plated, Tray, 41.5x26.5x9.5mm; Manufacturer: Wurth Elektronik; Base Material: Steel; ComponentLink1Description: Website Link; ComponentLink1URL: https://www.we-online.com/redexpert/article/36704159?ad; ComponentLink2Description: Datasheet Link; ComponentLink2URL: https://www.we-online.com/redexpert/spec/36704159?ad; Manufacturer Part Number: 36704159; Category: EMC Shielding; Match Code: WE-SHC; Mount: Surface Mount; Operating Temperature Max: 125°C; Operating Temperature Min: -40°C; Packaging: Tray; Length: 41.5mm; Width: 26.5mm; Height: 9.5mm; Plating: Tin Plated; Type: SMT Frame Seamless
footprint 36704159
pins: 1

## 36704485
designator MP?  (value not drawn)
WE-SHC Shielding Cabinet, SMT Frame Seamless, Tin Plated, Tray, 44.8x18.2x5.7mm; Manufacturer: Wurth Elektronik; Base Material: Steel; ComponentLink1Description: Website Link; ComponentLink1URL: https://www.we-online.com/redexpert/article/36704485?ad; ComponentLink2Description: Datasheet Link; ComponentLink2URL: https://www.we-online.com/redexpert/spec/36704485?ad; Manufacturer Part Number: 36704485; Category: EMC Shielding; Match Code: WE-SHC; Mount: Surface Mount; Operating Temperature Max: 125°C; Operating Temperature Min: -40°C; Packaging: Tray; Length: 44.8mm; Width: 18.2mm; Height: 5.7mm; Plating: Tin Plated; Type: SMT Frame Seamless
footprint 36704485
pins: 1

## 36705116
designator MP?  (value not drawn)
WE-SHC Shielding Cabinet, SMT Frame Seamless, Tin Plated, Tray, 51.1x38.4x6.5mm; Manufacturer: Wurth Elektronik; Base Material: Steel; ComponentLink1Description: Website Link; ComponentLink1URL: https://www.we-online.com/redexpert/article/36705116?ad; ComponentLink2Description: Datasheet Link; ComponentLink2URL: https://www.we-online.com/redexpert/spec/36705116?ad; Manufacturer Part Number: 36705116; Category: EMC Shielding; Match Code: WE-SHC; Mount: Surface Mount; Operating Temperature Max: 125°C; Operating Temperature Min: -40°C; Packaging: Tray; Length: 51.1mm; Width: 38.4mm; Height: 6.5mm; Plating: Tin Plated; Type: SMT Frame Seamless
footprint 36705116
pins: 1

## 36705935
designator MP?  (value not drawn)
WE-SHC Shielding Cabinet, SMT Frame Seamless, Tin Plated, Tray, 59.3x20.6x5.7mm; Manufacturer: Wurth Elektronik; Base Material: Steel; ComponentLink1Description: Website Link; ComponentLink1URL: https://www.we-online.com/redexpert/article/36705935?ad; ComponentLink2Description: Datasheet Link; ComponentLink2URL: https://www.we-online.com/redexpert/spec/36705935?ad; Manufacturer Part Number: 36705935; Category: EMC Shielding; Match Code: WE-SHC; Mount: Surface Mount; Operating Temperature Max: 125°C; Operating Temperature Min: -40°C; Packaging: Tray; Length: 59.3mm; Width: 20.6mm; Height: 5.7mm; Plating: Tin Plated; Type: SMT Frame Seamless
footprint 36705935
pins: 1

## 36900000
designator MP?  (value not drawn)
WE-SHC Shielding Cabinet, Clip, Tin Plated, Tape and Reel, 6.5x0.8x1.27mm; Manufacturer: Wurth Elektronik; Base Material: Steel; ComponentLink1Description: Website Link; ComponentLink1URL: https://www.we-online.com/redexpert/article/36900000?ad; ComponentLink2Description: Datasheet Link; ComponentLink2URL: https://www.we-online.com/redexpert/spec/36900000?ad; Manufacturer Part Number: 36900000; Category: EMC Shielding; Match Code: WE-SHC; Mount: Surface Mount; Operating Temperature Max: 125°C; Operating Temperature Min: -40°C; Packaging: Tape and Reel; Length: 6.5mm; Width: 0.8mm; Height: 1.27mm; Plating: Tin Plated; Type: Clip
footprint 36900000
pins: 1

## 36903205S
designator MP?  (value not drawn)
WE-SHC Shielding Cabinet, One Piece, Tin Plated, Tape and Reel, 20x20x3mm; Manufacturer: Wurth Elektronik; ComponentLink1Description: Website Link; ComponentLink1URL: https://www.we-online.com/redexpert/article/36903205S?ad; ComponentLink2Description: Datasheet Link; ComponentLink2URL: https://www.we-online.com/redexpert/spec/36903205S?ad; Manufacturer Part Number: 36903205S; Category: EMC Shielding; Match Code: WE-SHC; Mount: Surface Mount; Operating Temperature Max: 125°C; Operating Temperature Min: -40°C; Packaging: Tape and Reel; Length: 20mm; Width: 20mm; Height: 3mm; Base Material: Tin plate; Plating: Tin Plated; Type: One Piece
footprint 36903205S
pins: 1

## 36903255S
designator MP?  (value not drawn)
WE-SHC Shielding Cabinet, One Piece, Tin Plated, Tape and Reel, 25x25x3mm; Manufacturer: Wurth Elektronik; ComponentLink1Description: Website Link; ComponentLink1URL: https://www.we-online.com/redexpert/article/36903255S?ad; ComponentLink2Description: Datasheet Link; ComponentLink2URL: https://www.we-online.com/redexpert/spec/36903255S?ad; Manufacturer Part Number: 36903255S; Category: EMC Shielding; Match Code: WE-SHC; Mount: Surface Mount; Operating Temperature Max: 125°C; Operating Temperature Min: -40°C; Packaging: Tape and Reel; Length: 25mm; Width: 25mm; Height: 3mm; Base Material: Tin plate; Plating: Tin Plated; Type: One Piece
footprint 36903255S
pins: 1

## 36903305S
designator MP?  (value not drawn)
WE-SHC Shielding Cabinet, One Piece, Tin Plated, Tape and Reel, 30x30x3mm; Manufacturer: Wurth Elektronik; ComponentLink1Description: Website Link; ComponentLink1URL: https://www.we-online.com/redexpert/article/36903305S?ad; ComponentLink2Description: Datasheet Link; ComponentLink2URL: https://www.we-online.com/redexpert/spec/36903305S?ad; Manufacturer Part Number: 36903305S; Category: EMC Shielding; Match Code: WE-SHC; Mount: Surface Mount; Operating Temperature Max: 125°C; Operating Temperature Min: -40°C; Packaging: Tape and Reel; Length: 30mm; Width: 30mm; Height: 3mm; Base Material: Tin plate; Plating: Tin Plated; Type: One Piece
footprint 36903305S
pins: 1

## 36905266S
designator MP?  (value not drawn)
WE-SHC Shielding Cabinet, One Piece, Tin Plated, Tape and Reel, 25.81x25.81x4.88mm; Manufacturer: Wurth Elektronik; ComponentLink1Description: Website Link; ComponentLink1URL: https://www.we-online.com/redexpert/article/36905266S?ad; ComponentLink2Description: Datasheet Link; ComponentLink2URL: https://www.we-online.com/redexpert/spec/36905266S?ad; Manufacturer Part Number: 36905266S; Category: EMC Shielding; Match Code: WE-SHC; Mount: Surface Mount; Operating Temperature Max: 125°C; Operating Temperature Min: -40°C; Packaging: Tape and Reel; Length: 25.81mm; Width: 25.81mm; Height: 4.88mm; Base Material: Tin plate; Plating: Tin Plated; Type: One Piece
footprint 36905266S
pins: 1

## 36906326S
designator MP?  (value not drawn)
WE-SHC Shielding Cabinet, One Piece, Tin Plated, Tape and Reel, 31.6x31.6x5.8mm; Manufacturer: Wurth Elektronik; ComponentLink1Description: Website Link; ComponentLink1URL: https://www.we-online.com/redexpert/article/36906326S?ad; ComponentLink2Description: Datasheet Link; ComponentLink2URL: https://www.we-online.com/redexpert/spec/36906326S?ad; Manufacturer Part Number: 36906326S; Category: EMC Shielding; Match Code: WE-SHC; Mount: Surface Mount; Operating Temperature Max: 125°C; Operating Temperature Min: -40°C; Packaging: Tape and Reel; Length: 31.6mm; Width: 31.6mm; Height: 5.8mm; Base Material: Tin plate; Plating: Tin Plated; Type: One Piece
footprint 36906326S
pins: 1

## 36907406S
designator MP?  (value not drawn)
WE-SHC Shielding Cabinet, One Piece, Tin Plated, Tape and Reel, 43.97x43.97x9.55mm; Manufacturer: Wurth Elektronik; ComponentLink1Description: Website Link; ComponentLink1URL: https://www.we-online.com/redexpert/article/36907406S?ad; ComponentLink2Description: Datasheet Link; ComponentLink2URL: https://www.we-online.com/redexpert/spec/36907406S?ad; Manufacturer Part Number: 36907406S; Category: EMC Shielding; Match Code: WE-SHC; Mount: Surface Mount; Operating Temperature Max: 125°C; Operating Temperature Min: -40°C; Packaging: Tape and Reel; Length: 43.97mm; Width: 43.97mm; Height: 9.55mm; Base Material: Tin plate; Plating: Tin Plated; Type: One Piece
footprint 36907406S
pins: 1

## 367054413
designator MP?  (value not drawn)
WE-SHC Shielding Cabinet, SMT Frame Seamless, Tin Plated, Tray, 54.4x23.9x13.5mm; Manufacturer: Wurth Elektronik; Base Material: Steel; ComponentLink1Description: Website Link; ComponentLink1URL: https://www.we-online.com/redexpert/article/367054413?ad; ComponentLink2Description: Datasheet Link; ComponentLink2URL: https://www.we-online.com/redexpert/spec/367054413?ad; Manufacturer Part Number: 367054413; Category: EMC Shielding; Match Code: WE-SHC; Mount: Surface Mount; Operating Temperature Max: 125°C; Operating Temperature Min: -40°C; Packaging: Tray; Length: 54.4mm; Width: 23.9mm; Height: 13.5mm; Plating: Tin Plated; Type: SMT Frame Seamless
footprint 367054413
pins: 1

## 3610213126S
designator MP?  (value not drawn)
WE-SHC Shielding Cabinet, SMT Frame, Tin Plated, Tape and Reel, 13.26x12.3x2.54mm; Manufacturer: Wurth Elektronik; Base Material: Steel; ComponentLink1Description: Website Link; ComponentLink1URL: https://www.we-online.com/redexpert/article/3610213126S?ad; ComponentLink2Description: Datasheet Link; ComponentLink2URL: https://www.we-online.com/redexpert/spec/3610213126S?ad; Manufacturer Part Number: 3610213126S; Category: EMC Shielding; Match Code: WE-SHC; Mount: Surface Mount; Operating Temperature Max: 125°C; Operating Temperature Min: -40°C; Packaging: Tape and Reel; Length: 13.26mm; Width: 12.3mm; Height: 2.54mm; Plating: Tin Plated; Type: SMT Frame
footprint 3610213126S
pins: 1

## 3610536336S
designator MP?  (value not drawn)
WE-SHC Shielding Cabinet, SMT Frame, Tin Plated, Tape and Reel, 36.43x33.28x5.08mm; Manufacturer: Wurth Elektronik; Base Material: Steel; ComponentLink1Description: Website Link; ComponentLink1URL: https://www.we-online.com/redexpert/article/3610536336S?ad; ComponentLink2Description: Datasheet Link; ComponentLink2URL: https://www.we-online.com/redexpert/spec/3610536336S?ad; Manufacturer Part Number: 3610536336S; Category: EMC Shielding; Match Code: WE-SHC; Mount: Surface Mount; Operating Temperature Max: 125°C; Operating Temperature Min: -40°C; Packaging: Tape and Reel; Length: 36.43mm; Width: 33.28mm; Height: 5.08mm; Plating: Tin Plated; Type: SMT Frame
footprint 3610536336S
pins: 1

## 3610637256S
designator MP?  (value not drawn)
WE-SHC Shielding Cabinet, SMT Frame, Tin Plated, Tray, 37.7x25x6mm; Manufacturer: Wurth Elektronik; Base Material: Steel; ComponentLink1Description: Website Link; ComponentLink1URL: https://www.we-online.com/redexpert/article/3610637256S?ad; ComponentLink2Description: Datasheet Link; ComponentLink2URL: https://www.we-online.com/redexpert/spec/3610637256S?ad; Manufacturer Part Number: 3610637256S; Category: EMC Shielding; Match Code: WE-SHC; Mount: Surface Mount; Operating Temperature Max: 125°C; Operating Temperature Min: -40°C; Packaging: Tray; Length: 37.7mm; Width: 25mm; Height: 6mm; Plating: Tin Plated; Type: SMT Frame
footprint 3610637256S
pins: 1

## 3690103020
designator MP?  (value not drawn)
WE-SHC Shielding Cabinet, One Piece, Tin Plated, Tray, 3.1x3.1x0.89mm; Manufacturer: Wurth Elektronik; Base Material: Brass; ComponentLink1Description: Website Link; ComponentLink1URL: https://www.we-online.com/redexpert/article/3690103020?ad; ComponentLink2Description: Datasheet Link; ComponentLink2URL: https://www.we-online.com/redexpert/spec/3690103020?ad; Manufacturer Part Number: 3690103020; Category: EMC Shielding; Match Code: WE-SHC; Mount: Surface Mount; Operating Temperature Max: 125°C; Operating Temperature Min: -40°C; Packaging: Tray; Length: 3.1mm; Width: 3.1mm; Height: 0.89mm; Plating: Tin Plated; Type: One Piece
footprint 3690103020
pins: 1

## 3690103021
designator MP?  (value not drawn)
WE-SHC Shielding Cabinet, One Piece, Tin Plated, Tape and Reel, 3.1x3.1x0.89mm; Manufacturer: Wurth Elektronik; Base Material: Brass; ComponentLink1Description: Website Link; ComponentLink1URL: https://www.we-online.com/redexpert/article/3690103021?ad; ComponentLink2Description: Datasheet Link; ComponentLink2URL: https://www.we-online.com/redexpert/spec/3690103021?ad; Manufacturer Part Number: 3690103021; Category: EMC Shielding; Match Code: WE-SHC; Mount: Surface Mount; Operating Temperature Max: 125°C; Operating Temperature Min: -40°C; Packaging: Tape and Reel; Length: 3.1mm; Width: 3.1mm; Height: 0.89mm; Plating: Tin Plated; Type: One Piece
footprint 3690103021
pins: 1

## 3690103022
designator MP?  (value not drawn)
WE-SHC Shielding Cabinet, One Piece, Tin Plated, Tape and Reel, 3.1x3.1x0.89mm; Manufacturer: Wurth Elektronik; Base Material: Brass; ComponentLink1Description: Website Link; ComponentLink1URL: https://www.we-online.com/redexpert/article/3690103022?ad; ComponentLink2Description: Datasheet Link; ComponentLink2URL: https://www.we-online.com/redexpert/spec/3690103022?ad; Manufacturer Part Number: 3690103022; Category: EMC Shielding; Match Code: WE-SHC; Mount: Surface Mount; Operating Temperature Max: 125°C; Operating Temperature Min: -40°C; Packaging: Tape and Reel; Length: 3.1mm; Width: 3.1mm; Height: 0.89mm; Plating: Tin Plated; Type: One Piece
footprint 3690103022
pins: 1